# Altium schematic symbol library PBL - Integrated Circuits.SCHLIB: 64 symbols (part 2 of 2)
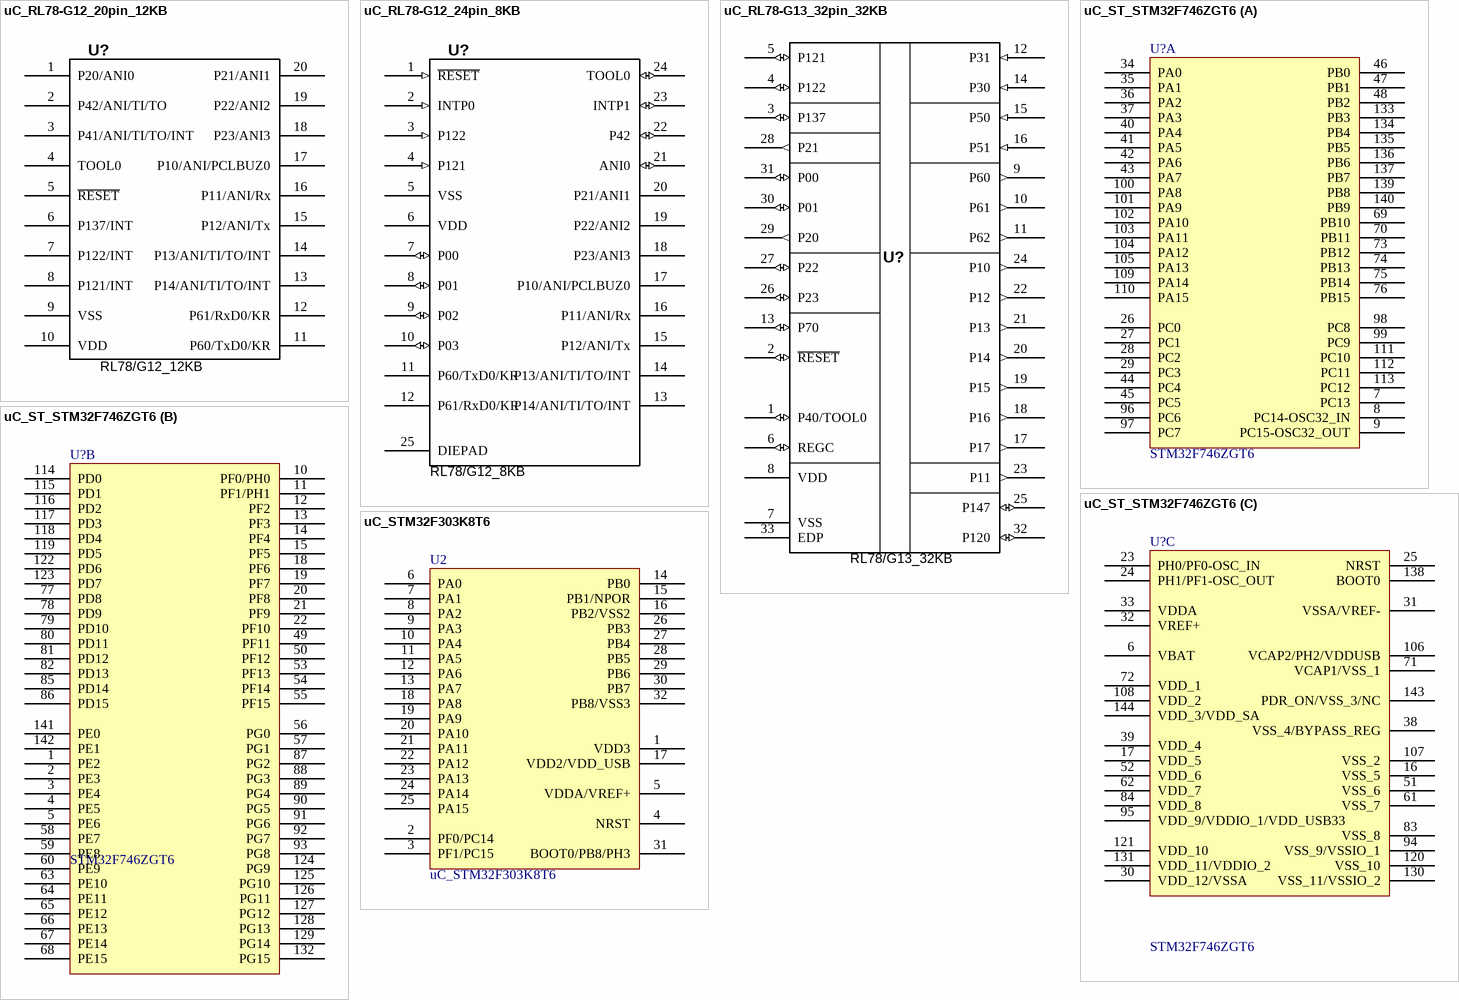
[diagram p5: symbols uC_RL78-G12_20pin_12KB to uC_STM32F303K8T6]

## uC_RL78-G13_32pin_32KB
designator U?, comment RL78/G13_32KB
IC Renesas 16-Bit Single-Chip Microcontroller 32KB flash WQFN-32 SMD; Manufacturer 1: Renesas Electronics America; Manufacturer Part Number 1: R5F100BCANA#U0; Voltage - Supply (Vcc/Vdd): 1.8 V ~ 5.5 V; SCDType: source; Package / Case: WQFN-32; Core Processor: RL78/G13; Operating Temperature: -40°C ~ 85°C; Supplier 1: Digi-Key; Supplier Part Number 1: R5F100BCANA#U0-ND; ComponentLink1URL: http://am.renesas.com/media/products/mpumcu/rl78/R01UH0146EJ0100_RL78G13.pdf; ComponentLink1Description: http://am.renesas.com/media/products/mpumcu/rl78/R01UH0146EJ0100_RL78G13.pdf
footprint QFN50P500X500X80-33N (QFN, 32-Leads with exposed die pad, Body 5.1x5.1mm (max), Pitch 0.50mm, IPC Medium Density)
pins: 1 P40/TOOL0 (io), 2 ~{RESET} (io), 3 P137 (io), 4 P122 (io), 5 P121 (io), 6 REGC (io), 7 VSS (power), 8 VDD (power), 9 P60 (out), 10 P61 (out), 11 P62 (out), 12 P31 (in), 13 P70 (io), 14 P30 (in), 15 P50 (in), 16 P51 (in), 17 P17 (out), 18 P16 (out), 19 P15 (out), 20 P14 (out), 21 P13 (out), 22 P12 (out), 23 P11 (out), 24 P10 (out), 25 P147 (io), 26 P23 (io), 27 P22 (io), 28 P21 (out), 29 P20 (out), 30 P01 (io), 31 P00 (io), 32 P120 (io), 33 EDP (power)

## uC_ST_STM32F746ZGT6
designator U?, comment STM32F746ZGT6
IC MCU 32BIT 1MB FLASH 144LQFP; Supplier 1: Mouser; Supplier Part Number 1: 511-STM32F746ZGT6
footprint LQFP144_0R5_SKT (32-bit MCU ARM-based Cortex-M3 20 X 20mm, 0.5mm Pitch, 1.6mm Max thickness)
part A pins: 7 PC13, 8 PC14-OSC32_IN, 9 PC15-OSC32_OUT, 26 PC0, 27 PC1, 28 PC2, 29 PC3, 34 PA0, 35 PA1, 36 PA2, 37 PA3, 40 PA4, 41 PA5, 42 PA6, 43 PA7, 44 PC4, 45 PC5, 46 PB0, 47 PB1, 48 PB2, 69 PB10, 70 PB11, 73 PB12, 74 PB13, 75 PB14, 76 PB15, 96 PC6, 97 PC7, 98 PC8, 99 PC9, 100 PA8, 101 PA9, 102 PA10, 103 PA11, 104 PA12, 105 PA13, 109 PA14, 110 PA15, 111 PC10, 112 PC11, 113 PC12, 133 PB3, 134 PB4, 135 PB5, 136 PB6, 137 PB7, 139 PB8, 140 PB9
part B pins: 1 PE2, 2 PE3, 3 PE4, 4 PE5, 5 PE6, 10 PF0/PH0, 11 PF1/PH1, 12 PF2, 13 PF3, 14 PF4, 15 PF5, 18 PF6, 19 PF7, 20 PF8, 21 PF9, 22 PF10, 49 PF11, 50 PF12, 53 PF13, 54 PF14, 55 PF15, 56 PG0, 57 PG1, 58 PE7, 59 PE8, 60 PE9, 63 PE10, 64 PE11, 65 PE12, 66 PE13, 67 PE14, 68 PE15, 77 PD8, 78 PD9, 79 PD10, 80 PD11, 81 PD12, 82 PD13, 85 PD14, 86 PD15, 87 PG2, 88 PG3, 89 PG4, 90 PG5, 91 PG6, 92 PG7, 93 PG8, 114 PD0, 115 PD1, 116 PD2, 117 PD3, 118 PD4, 119 PD5, 122 PD6, 123 PD7, 124 PG9, 125 PG10, 126 PG11, 127 PG12, 128 PG13, 129 PG14, 132 PG15, 141 PE0, 142 PE1
part C pins: 6 VBAT, 16 VSS_5, 17 VDD_5, 23 PH0/PF0-OSC_IN, 24 PH1/PF1-OSC_OUT, 25 NRST, 30 VDD_12/VSSA, 31 VSSA/VREF-, 32 VREF+, 33 VDDA, 38 VSS_4/BYPASS_REG, 39 VDD_4, 51 VSS_6, 52 VDD_6, 61 VSS_7, 62 VDD_7, 71 VCAP1/VSS_1, 72 VDD_1, 83 VSS_8, 84 VDD_8, 94 VSS_9/VSSIO_1, 95 VDD_9/VDDIO_1/VDD_USB33, 106 VCAP2/PH2/VDDUSB, 107 VSS_2, 108 VDD_2, 120 VSS_10, 121 VDD_10, 130 VSS_11/VSSIO_2, 131 VDD_11/VDDIO_2, 138 BOOT0, 143 PDR_ON/VSS_3/NC, 144 VDD_3/VDD_SA

## uC_STM32F303K8T6
designator U2
IC MCU 32BIT 64KB FLASH 32LQFP; Supplier 1: Digi-Key; Supplier Part Number 1: 497-15828-ND
footprint LQFP32 (IC MCU 32BIT 64KB FLASH 32LQFP)
footprint ST_LQFP_32_V (LQFP32 Recommended ,32 Pin MCU Size,7x7mm, Pitch, 0.8mm)
footprint LQFP32_0R5_7x7 (LQFP32 Recommended ,32 Pin MCU Size,7x7mm, Pitch, 0.8mm)
pins: 1 VDD3, 2 PF0/PC14, 3 PF1/PC15, 4 NRST, 5 VDDA/VREF+, 6 PA0, 7 PA1, 8 PA2, 9 PA3, 10 PA4, 11 PA5, 12 PA6, 13 PA7, 14 PB0, 15 PB1/NPOR, 16 PB2/VSS2, 17 VDD2/VDD_USB, 18 PA8, 19 PA9, 20 PA10, 21 PA11, 22 PA12, 23 PA13, 24 PA14, 25 PA15, 26 PB3, 27 PB4, 28 PB5, 29 PB6, 30 PB7, 31 BOOT0/PB8/PH3, 32 PB8/VSS3

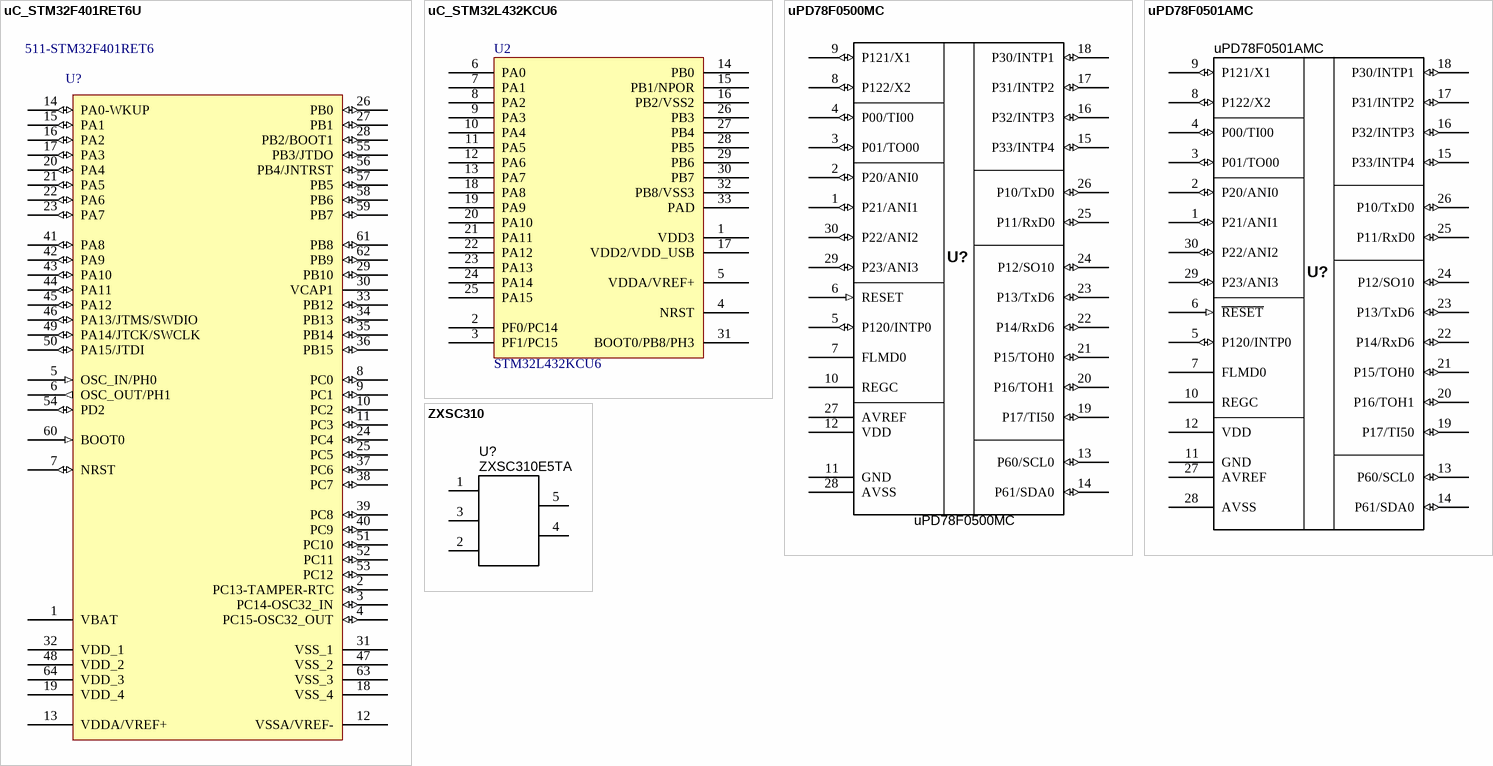
[diagram p4: symbols uC_STM32F401RET6U to ZXSC310]

## uC_STM32F401RET6U
designator U?  Supplier Part Number 1: 511-STM32F401RET6
STM32 ARM-based 32-bit MCU with 128 Kbytes Flash, 64-pin LQFP, Industrial Temperature; Published: 30-May-2008; DatasheetVersion: rev6, Mar-2008; PackageVersion: Mar-2008; PackageReference: LQFP64; Publisher: Altium Limited; PackageDescription: 64-Pin Low-Profile Quad Flat Pack, 10 x 10 mm Body, 0.5 mm Pitch (LQFP64); ComponentLink1Description: Manufacturer Link; ComponentLink1URL: www.st.com/stm32; ComponentLink2Description: Datasheet; ComponentLink2URL: http://www.st.com/stonline/products/literature/ds/13587.pdf; Supplier 1: Mouser
footprint LQFP64_N (Thin QFP, 64-Leads, Body 10x10mm, Pitch 0.5mm, IPC Medium Density)
footprint LQFP64_L (Thin QFP, 64-Leads, Body 10x10mm, Pitch 0.5mm, IPC High Density)
footprint LQFP64_M (Thin QFP, 64-Leads, Body 10x10mm, Pitch 0.5mm, IPC Low Density)
pins: 1 VBAT (power), 2 PC13-TAMPER-RTC (io), 3 PC14-OSC32_IN (io), 4 PC15-OSC32_OUT (io), 5 OSC_IN/PH0 (in), 6 OSC_OUT/PH1 (out), 7 NRST (io), 8 PC0 (io), 9 PC1 (io), 10 PC2 (io), 11 PC3 (io), 12 VSSA/VREF- (power), 13 VDDA/VREF+ (power), 14 PA0-WKUP (io), 15 PA1 (io), 16 PA2 (io), 17 PA3 (io), 18 VSS_4 (power), 19 VDD_4 (power), 20 PA4 (io), 21 PA5 (io), 22 PA6 (io), 23 PA7 (io), 24 PC4 (io), 25 PC5 (io), 26 PB0 (io), 27 PB1 (io), 28 PB2/BOOT1 (io), 29 PB10 (io), 30 VCAP1 (power), 31 VSS_1 (power), 32 VDD_1 (power), 33 PB12 (io), 34 PB13 (io), 35 PB14 (io), 36 PB15 (io), 37 PC6 (io), 38 PC7 (io), 39 PC8 (io), 40 PC9 (io), 41 PA8 (io), 42 PA9 (io), 43 PA10 (io), 44 PA11 (io), 45 PA12 (io), 46 PA13/JTMS/SWDIO (io), 47 VSS_2 (power), 48 VDD_2 (power), 49 PA14/JTCK/SWCLK (io), 50 PA15/JTDI (io), 51 PC10 (io), 52 PC11 (io), 53 PC12 (io), 54 PD2 (io), 55 PB3/JTDO (io), 56 PB4/JNTRST (io), 57 PB5 (io), 58 PB6 (io), 59 PB7 (io), 60 BOOT0 (in), 61 PB8 (io), 62 PB9 (io), 63 VSS_3 (power), 64 VDD_3 (power)

## uC_STM32L432KCU6
designator U2  Manufacturer Part Number: STM32L432KCU6  (hidden comment: uC_STM32L432KCU6)
ARM® Cortex®-M4 STM32L4 Microcontroller IC 32-Bit 80MHz 256KB (256K x 8) FLASH 32-UFQFPN (5x5); Manufacturer: STMicroelectronics; Connectivity: CAN, I²C, IrDA, LIN, QSPI, SAI, SPI, SWPMI, UART/USART, USB; Peripherals: Brown-out Detect/Reset, DMA, PWM, WDT; Number of I/O: 26; RAM Size: 64K x 8; Voltage - Supply (Vcc/Vdd): 1.71 V ~ 3.6 V; Data Converters: A/D 10x12b, D/A 2x12b; Oscillator Type: Internal; Supplier Part Number 1: 511-STM32L432KCU6; Packaging: Tray; Part Status: Active; Core Processor: ARM® Cortex®-M4; Core Size: 32-Bit; Speed: 80MHz; Program Memory Size: 256KB (256K x 8); Program Memory Type: FLASH; EEPROM Size: -; Operating Temperature: -40°C ~ 85°C (TA); Package / Case: 32-UFQFN Exposed Pad; Supplier Device Package: 32-UFQFPN (5x5); ComponentLink1URL: http://www.st.com/content/ccc/resource/technical/document/datasheet/24/01/9f/59/f0/83/47/fc/DM00257205.pdf/files/DM00257205.pdf/jcr:content/translations/en.DM00257205.pdf; ComponentLink1Description: http://www.st.com/content/ccc/resource/technical/document/datasheet/24/01/9f/59/f0/83/47/fc/DM00257205.pdf/files/DM00257205.pdf/jcr:content/translations/en.DM00257205.pdf; Category: Integrated Circuits (ICs); RoHS: RoHS Compliant; Supplier 1: Mouser; Supplier 2: Digi-Key; Supplier Part Number 2: 497-16578-ND
footprint QFN50P500X500X80-33N (QFN, 32-Leads with exposed die pad, Body 5.1x5.1mm (max), Pitch 0.50mm, IPC Medium Density)
pins: 1 VDD3, 2 PF0/PC14, 3 PF1/PC15, 4 NRST, 5 VDDA/VREF+, 6 PA0, 7 PA1, 8 PA2, 9 PA3, 10 PA4, 11 PA5, 12 PA6, 13 PA7, 14 PB0, 15 PB1/NPOR, 16 PB2/VSS2, 17 VDD2/VDD_USB, 18 PA8, 19 PA9, 20 PA10, 21 PA11, 22 PA12, 23 PA13, 24 PA14, 25 PA15, 26 PB3, 27 PB4, 28 PB5, 29 PB6, 30 PB7, 31 BOOT0/PB8/PH3, 32 PB8/VSS3, 33 PAD

## uPD78F0500MC
designator U?
IC SMD NEC 8-Bit Single-Chip Microcontroller; Manufacturer Part Number 1: µPD78F0500MC-5A4-A; SCDType: source; Manufacturer 1: NEC; Package / Case: SSOP-30; Material: Silicon; Supplier 1: Digi-Key; Supplier Part Number 1: UPD78F0500MC-5A4-A-ND; ComponentLink1URL: http://documentation.renesas.com/doc/DocumentServer/r01uh0008ej0401_78k0kx2.pdf; ComponentLink1Description: http://documentation.renesas.com/doc/DocumentServer/r01uh0008ej0401_78k0kx2.pdf
footprint SOP65P810X120-30N (SOP, 30-Leads, Body 9.8x6.2mm (max), Pitch 0.65mm, IPC Medium Density)
pins: 1 P21/ANI1 (io) "Analog input", 2 P20/ANI0 (io) "Analog input", 3 P01/TO00 (io), 4 P00/TI00 (io), 5 P120/INTP0 (io), 6 RESET (in) "Reset", 7 FLMD0, 8 P122/X2 (io) "Crystal oscillator", 9 P121/X1 (io) "Crystal oscillator", 10 REGC "Regulator capacitance", 11 GND (power) "Ground", 12 VDD (power) "Power supply", 13 P60/SCL0 (io), 14 P61/SDA0 (io), 15 P33/INTP4 (io), 16 P32/INTP3 (io), 17 P31/INTP2 (io), 18 P30/INTP1 (io), 19 P17/TI50 (io), 20 P16/TOH1 (io), 21 P15/TOH0 (io), 22 P14/RxD6 (io), 23 P13/TxD6 (io) "Transmit data", 24 P12/SO10 (io), 25 P11/RxD0 (io), 26 P10/TxD0 (io) "Transmit data", 27 AVREF (power) "Analog reference voltage", 28 AVSS (power) "Analog ground", 29 P23/ANI3 (io) "Analog input", 30 P22/ANI2 (io) "Analog input"

## uPD78F0501AMC
designator U?
IC SMD Renesas 8-Bit Single-Chip Microcontroller 16KB flash; Manufacturer 1: Renesas Electronics America/NEC; Manufacturer Part Number 1: UPD78F0501AMC-CAB-AX; Core Processor: 78K/0; Speed: 20MHz; Program Memory Size: 16KB (16K x 8); RAM Size: 768 x 8; Voltage - Supply (Vcc/Vdd): 1.8 V ~ 5.5 V; SCDType: source; Package / Case: SSOP-30; Supplier 1: Digi-Key; Supplier Part Number 1: UPD78F0501AMC-CAB-AX-ND; Program Memory Type: FLASH; Operating Temperature: -40°C ~ 85°C; ComponentLink1URL: http://www2.renesas.com/maps_download/pdf/R01UH0008EJ0401_78K0Kx2.pdf; ComponentLink1Description: http://www2.renesas.com/maps_download/pdf/R01UH0008EJ0401_78K0Kx2.pdf
footprint SOP65P810X120-30N (SOP, 30-Leads, Body 9.8x6.2mm (max), Pitch 0.65mm, IPC Medium Density)
pins: 1 P21/ANI1 (io) "Analog input", 2 P20/ANI0 (io) "Analog input", 3 P01/TO00 (io), 4 P00/TI00 (io), 5 P120/INTP0 (io), 6 ~{RESET} (in) "Reset", 7 FLMD0, 8 P122/X2 (io) "Crystal oscillator", 9 P121/X1 (io) "Crystal oscillator", 10 REGC "Regulator capacitance", 11 GND (power) "Ground", 12 VDD (power) "Power supply", 13 P60/SCL0 (io), 14 P61/SDA0 (io), 15 P33/INTP4 (io), 16 P32/INTP3 (io), 17 P31/INTP2 (io), 18 P30/INTP1 (io), 19 P17/TI50 (io), 20 P16/TOH1 (io), 21 P15/TOH0 (io), 22 P14/RxD6 (io), 23 P13/TxD6 (io) "Transmit data", 24 P12/SO10 (io), 25 P11/RxD0 (io), 26 P10/TxD0 (io) "Transmit data", 27 AVREF (power) "Analog reference voltage", 28 AVSS (power) "Analog ground", 29 P23/ANI3 (io) "Analog input", 30 P22/ANI2 (io) "Analog input"
1 alternate drawing of the same symbol

## ZXSC310
designator U?  Manufacturer Part Number 1: ZXSC310E5TA
LED Driver IC SMD SOT23-5; Manufacturer 1: Diodes/Zetex; Current - Output / Channel: 3.5mA; Ratings: 450 mW; SCDType: spec*; Supplier 1: Digi-Key; Supplier Part Number 1: ZXSC310CT-ND; Package / Case: SOT-23-5
footprint SOT23-5
pins: 1 VCC, 2 GND, 3 STDN, 4 ISENSE, 5 VDRIVE